# Altium footprint library 接插件.PcbLib: 91 footprints (part 3 of 6)
Each footprint in its own frame and in the unit in brackets; x right, y up, seen from the top. Pads: shape width x height; smd on the part's side, far side on the other; paste and mask are expansions set on the pad; w line width, h text height; cw(c..) or ccw(c..) is an arc to the next point about the centre after c.
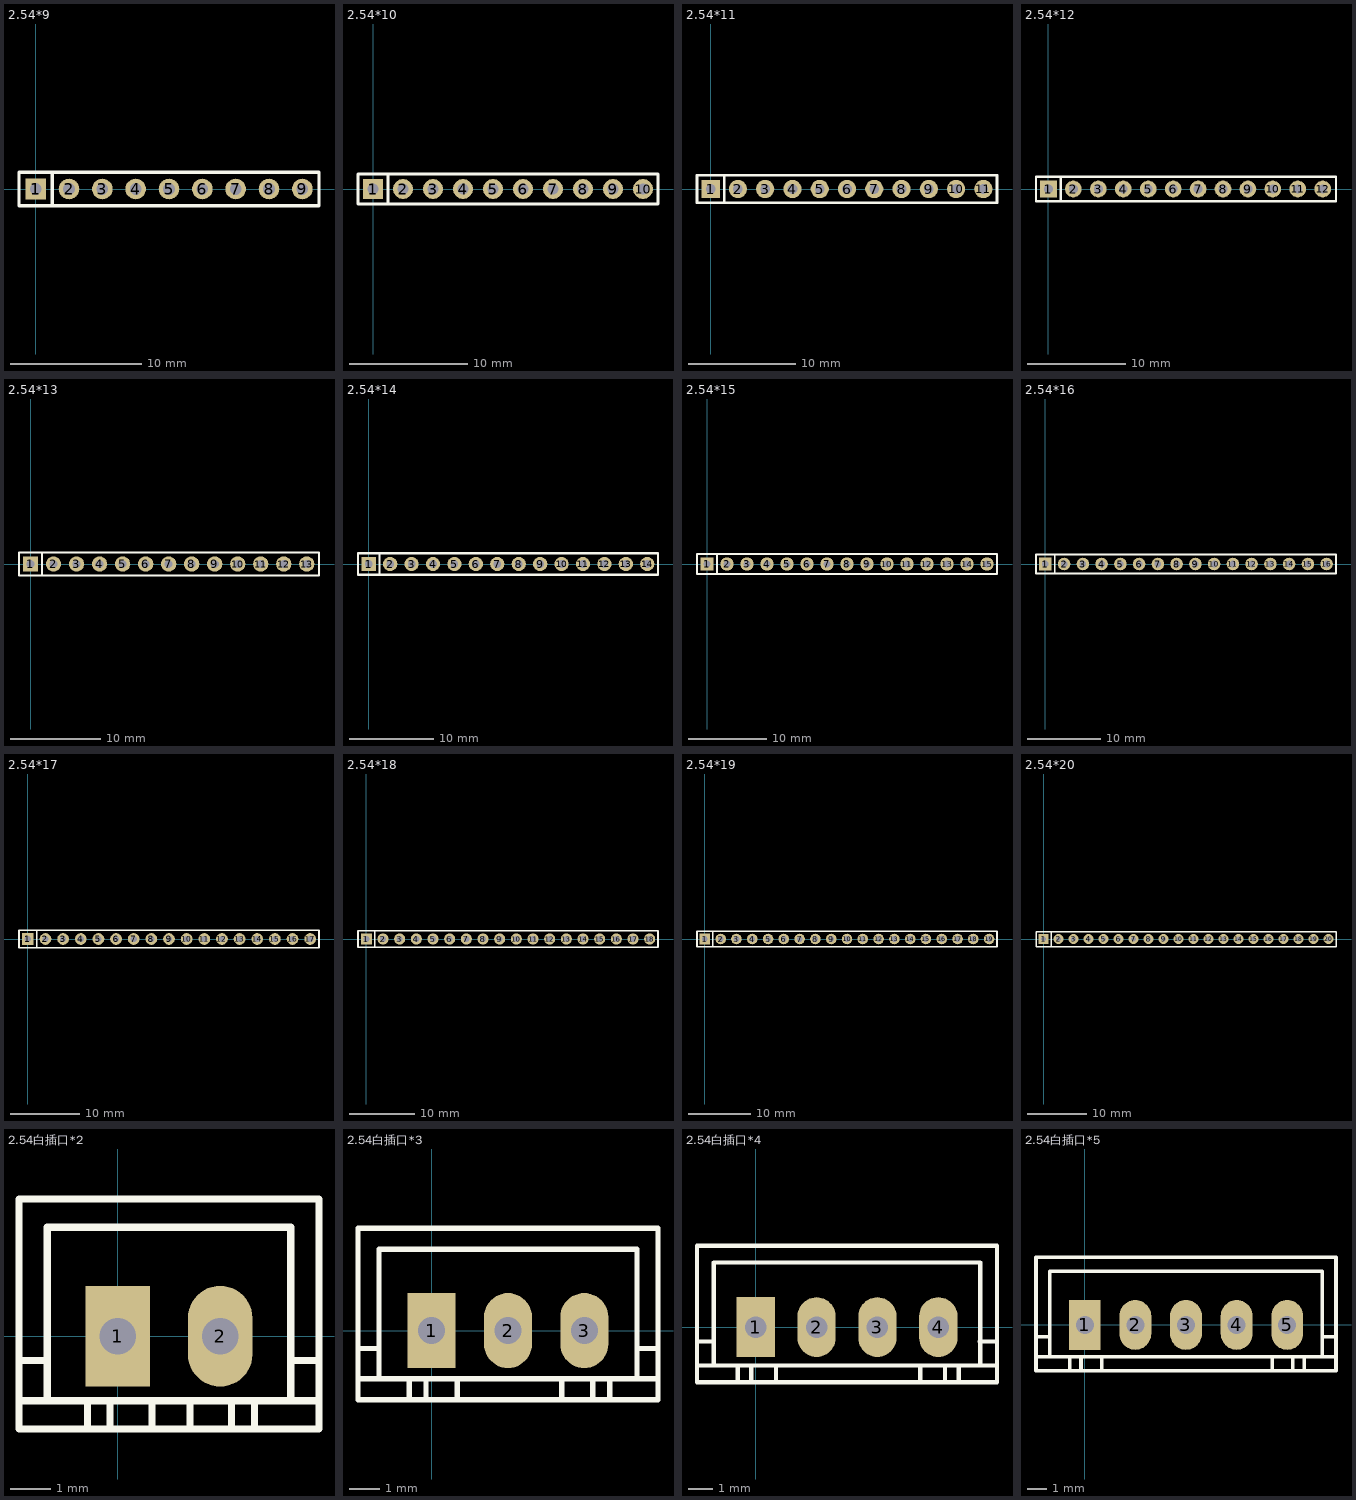
[diagram p2: the footprints below, top view; thin cyan lines are the x and y axes]

## 2.54*9 [mm]
pads (9):
  rect 1.57x1.57 hole 0.9: 1(0,0)
  round 1.57 hole 0.9: 2(2.54,0) 3(5.08,0) 4(7.62,0) 5(10.16,0) 6(12.7,0) 7(15.24,0) 8(17.78,0) 9(20.32,0)
Top Overlay:
  lines w0.254: 1.27,-1.27 1.27,1.27 ; -1.27,-1.27 -1.27,1.27 21.59,1.27 21.59,-1.27 -1.27,-1.27

## 2.54*10 [mm]
pads (10):
  rect 1.7x1.7 hole 0.9: 1(0,0)
  round 1.7 hole 0.9: 2(2.54,0) 3(5.08,0) 4(7.62,0) 5(10.16,0) 6(12.7,0) 7(15.24,0) 8(17.78,0) 9(20.32,0) 10(22.86,0)
Top Overlay:
  lines w0.254: -1.27,-1.143 -1.27,-1.27 ; 1.27,-1.27 1.27,1.27 ; -1.27,-1.27 24.13,-1.27 24.13,1.27 -1.27,1.27 -1.27,-1.27

## 2.54*11 [mm]
pads (11):
  rect 1.7x1.7 hole 0.9: 1(0,0)
  round 1.7 hole 0.9: 2(2.54,0) 3(5.08,0) 4(7.62,0) 5(10.16,0) 6(12.7,0) 7(15.24,0) 8(17.78,0) 9(20.32,0) 10(22.86,0) 11(25.4,0)
Top Overlay:
  lines w0.254: -1.27,-1.143 -1.27,-1.27 ; 1.27,-1.27 1.27,1.27 ; -1.27,-1.27 26.67,-1.27 26.67,1.27 -1.27,1.27 -1.27,-1.27

## 2.54*12 [mm]
pads (12):
  rect 1.7x1.7 hole 0.9: 1(0,0)
  round 1.7 hole 0.9: 2(2.54,0) 3(5.08,0) 4(7.62,0) 5(10.16,0) 6(12.7,0) 7(15.24,0) 8(17.78,0) 9(20.32,0) 10(22.86,0) 11(25.4,0) 12(27.94,0)
Top Overlay:
  lines w0.254: 1.27,-1.27 1.27,1.27 ; -1.27,-1.27 -1.27,1.27 29.29,1.27 29.29,-1.27 -1.27,-1.27

## 2.54*13 [mm]
pads (13):
  rect 1.7x1.7 hole 0.9: 1(0,0)
  round 1.7 hole 0.9: 2(2.54,0) 3(5.08,0) 4(7.62,0) 5(10.16,0) 6(12.7,0) 7(15.24,0) 8(17.78,0) 9(20.32,0) 10(22.86,0) 11(25.4,0) 12(27.94,0) 13(30.48,0)
Top Overlay:
  lines w0.254: 1.27,-1.27 1.27,1.27 ; -1.27,-1.27 31.83,-1.27 31.83,1.27 -1.27,1.27 -1.27,-1.27

## 2.54*14 [mm]
pads (14):
  rect 1.7x1.7 hole 0.9: 1(0,0)
  round 1.7 hole 0.9: 2(2.54,0) 3(5.08,0) 4(7.62,0) 5(10.16,0) 6(12.7,0) 7(15.24,0) 8(17.78,0) 9(20.32,0) 10(22.86,0) 11(25.4,0) 12(27.94,0) 13(30.48,0) 14(33.02,0)
Top Overlay:
  lines w0.254: 1.27,-1.27 1.27,1.27 ; 34.29,-1.27 34.29,1.27 ; 34.29,-1.27 -1.27,-1.27 -1.27,1.27 34.29,1.27 ; 34.29,-1.27 34.29,1.27

## 2.54*15 [mm]
pads (15):
  rect 1.7x1.7 hole 0.9: 1(0,0)
  round 1.7 hole 0.9: 2(2.54,0) 3(5.08,0) 4(7.62,0) 5(10.16,0) 6(12.7,0) 7(15.24,0) 8(17.78,0) 9(20.32,0) 10(22.86,0) 11(25.4,0) 12(27.94,0) 13(30.48,0) 14(33.02,0) 15(35.56,0)
Top Overlay:
  lines w0.254: 1.27,-1.27 1.27,1.27 ; -1.27,-1.27 -1.27,1.27 34.29,1.27 36.83,1.27 36.83,-1.27 34.29,-1.27 -1.27,-1.27

## 2.54*16 [mm]
pads (16):
  rect 1.7x1.7 hole 0.9: 1(0,0)
  round 1.7 hole 0.9: 2(2.54,0) 3(5.08,0) 4(7.62,0) 5(10.16,0) 6(12.7,0) 7(15.24,0) 8(17.78,0) 9(20.32,0) 10(22.86,0) 11(25.4,0) 12(27.94,0) 13(30.48,0) 14(33.02,0) 15(35.56,0) 16(38.1,0)
Top Overlay:
  lines w0.254: 1.27,-1.27 1.27,1.27 ; -1.27,-1.27 34.29,-1.27 39.37,-1.27 39.37,1.27 34.29,1.27 -1.27,1.27 -1.27,-1.27

## 2.54*17 [mm]
pads (17):
  rect 1.7x1.7 hole 0.9: 1(0,0)
  round 1.7 hole 0.9: 2(2.54,0) 3(5.08,0) 4(7.62,0) 5(10.16,0) 6(12.7,0) 7(15.24,0) 8(17.78,0) 9(20.32,0) 10(22.86,0) 11(25.4,0) 12(27.94,0) 13(30.48,0) 14(33.02,0) 15(35.56,0) 16(38.1,0) 17(40.64,0)
Top Overlay:
  lines w0.254: 1.27,-1.27 1.27,1.27 ; -1.27,-1.27 34.29,-1.27 41.91,-1.27 41.91,1.27 34.29,1.27 -1.27,1.27 -1.27,-1.27

## 2.54*18 [mm]
pads (18):
  rect 1.7x1.7 hole 0.9: 1(0,0)
  round 1.7 hole 0.9: 2(2.54,0) 3(5.08,0) 4(7.62,0) 5(10.16,0) 6(12.7,0) 7(15.24,0) 8(17.78,0) 9(20.32,0) 10(22.86,0) 11(25.4,0) 12(27.94,0) 13(30.48,0) 14(33.02,0) 15(35.56,0) 16(38.1,0) 17(40.64,0) 18(43.18,0)
Top Overlay:
  lines w0.254: 1.27,-1.27 1.27,1.27 ; -1.27,-1.27 34.29,-1.27 44.45,-1.27 44.45,1.27 34.29,1.27 -1.27,1.27 -1.27,-1.27

## 2.54*19 [mm]
pads (19):
  rect 1.7x1.7 hole 0.9: 1(0,0)
  round 1.7 hole 0.9: 2(2.54,0) 3(5.08,0) 4(7.62,0) 5(10.16,0) 6(12.7,0) 7(15.24,0) 8(17.78,0) 9(20.32,0) 10(22.86,0) 11(25.4,0) 12(27.94,0) 13(30.48,0) 14(33.02,0) 15(35.56,0) 16(38.1,0) 17(40.64,0) 18(43.18,0) 19(45.72,0)
Top Overlay:
  lines w0.254: 1.27,-1.27 1.27,1.27 ; -1.27,-1.27 -1.27,1.27 34.29,1.27 46.99,1.27 46.99,-1.27 34.29,-1.27 -1.27,-1.27

## 2.54*20 [mm]
pads (20):
  rect 1.7x1.7 hole 0.9: 1(0,0)
  round 1.7 hole 0.9: 2(2.54,0) 3(5.08,0) 4(7.62,0) 5(10.16,0) 6(12.7,0) 7(15.24,0) 8(17.78,0) 9(20.32,0) 10(22.86,0) 11(25.4,0) 12(27.94,0) 13(30.48,0) 14(33.02,0) 15(35.56,0) 16(38.1,0) 17(40.64,0) 18(43.18,0) 19(45.72,0) 20(48.26,0)
Top Overlay:
  lines w0.254: 1.27,-1.27 1.27,1.27 ; -1.27,-1.27 -1.27,1.27 34.29,1.27 49.53,1.27 49.53,-1.27 34.29,-1.27 -1.27,-1.27

## 2.54白插口*2 [mm]
pads (2):
  rect 1.6x2.5 hole 0.9: 1(0,0)
  oval 1.6x2.5 hole 0.9: 2(2.54,0)
Top Overlay:
  lines w0.178: -2.45,-1.6 -1.75,-1.6 ; -2.45,-0.6 -1.75,-0.6 ; -2.45,3.4 -2.45,-2.3 4.99,-2.3 4.99,3.4 -2.44,3.4 ; -0.75,-2.3 -0.75,-1.6 ; -0.19,-2.29 -0.19,-1.6 ; 0.85,-2.3 0.85,-1.6 ; 1.79,-2.3 1.79,-1.6 ; 2.82,-2.3 2.82,-1.6 ; 3.39,-2.3 3.39,-1.6 ; 4.29,-0.6 4.99,-0.6 ; 4.99,-1.6 4.29,-1.6 ; -1.75,-1.6 -1.75,2.7 4.29,2.7 4.29,-1.6 ; -1.75,-1.6 4.29,-1.6

## 2.54白插口*3 [mm]
pads (3):
  rect 1.6x2.5 hole 0.9: 1(0,0)
  oval 1.6x2.5 hole 0.9: 2(2.54,0) 3(5.08,0)
Top Overlay:
  lines w0.178: -2.45,-1.6 -1.75,-1.6 ; -2.45,-0.6 -1.75,-0.6 ; -2.45,3.4 -2.45,-2.3 7.53,-2.3 7.53,3.4 -2.44,3.4 ; -0.75,-2.3 -0.75,-1.6 ; -0.19,-2.29 -0.19,-1.6 ; 0.85,-2.3 0.85,-1.6 ; 4.33,-2.3 4.33,-1.6 ; 5.36,-2.3 5.36,-1.6 ; 5.93,-2.3 5.93,-1.6 ; 6.83,-0.6 7.53,-0.6 ; 7.53,-1.6 6.83,-1.6 ; -1.75,-1.6 -1.75,2.7 6.83,2.7 6.83,-1.6 ; -1.75,-1.6 6.83,-1.6

## 2.54白插口*4 [mm]
pads (4):
  rect 1.6x2.5 hole 0.9: 1(0,0)
  oval 1.6x2.5 hole 0.9: 2(2.54,0) 3(5.08,0) 4(7.62,0)
Top Overlay:
  lines w0.178: -2.45,-1.6 -1.75,-1.6 ; -2.45,-0.6 -1.75,-0.6 ; -2.45,3.4 -2.45,-2.3 10.05,-2.3 ; -2.44,3.4 10.05,3.4 ; -0.75,-2.3 -0.75,-1.6 ; -0.19,-2.29 -0.19,-1.6 ; 0.85,-2.3 0.85,-1.6 ; 6.87,-2.3 6.87,-1.6 ; 7.9,-2.3 7.9,-1.6 ; 8.47,-2.3 8.47,-1.6 ; 9.35,-0.6 10.05,-0.6 ; 9.35,2.7 -1.75,2.7 -1.75,-1.6 ; 9.37,-1.6 9.37,2.7 ; 10.05,-1.6 6.83,-1.6 -1.75,-1.6 ; 10.07,-2.3 10.07,3.4

## 2.54白插口*5 [mm]
pads (5):
  rect 1.6x2.5 hole 0.9: 1(0,0)
  oval 1.6x2.5 hole 0.9: 2(2.54,0) 3(5.08,0) 4(7.62,0) 5(10.16,0)
Top Overlay:
  lines w0.178: -2.45,-1.6 -1.75,-1.6 ; -2.45,-0.6 -1.75,-0.6 ; -2.45,3.4 -2.45,-2.3 12.61,-2.3 12.61,3.4 -2.44,3.4 ; -0.75,-2.3 -0.75,-1.6 ; -0.19,-2.29 -0.19,-1.6 ; 0.85,-2.3 0.85,-1.6 ; 9.41,-2.3 9.41,-1.6 ; 10.44,-2.3 10.44,-1.6 ; 11.01,-2.3 11.01,-1.6 ; 11.91,-0.6 12.61,-0.6 ; 12.61,-1.6 11.91,-1.6 ; -1.75,-1.6 11.91,-1.6 ; -1.75,-1.6 -1.75,2.7 11.91,2.7 11.91,-1.6